# Altium footprint library PcbLib1.PcbLib: 29 footprints (part 2 of 2)
Each footprint in its own frame and in the unit in brackets; x right, y up, seen from the top. Pads: shape width x height; smd on the part's side, far side on the other; paste and mask are expansions set on the pad; w line width, h text height; cw(c..) or ccw(c..) is an arc to the next point about the centre after c.
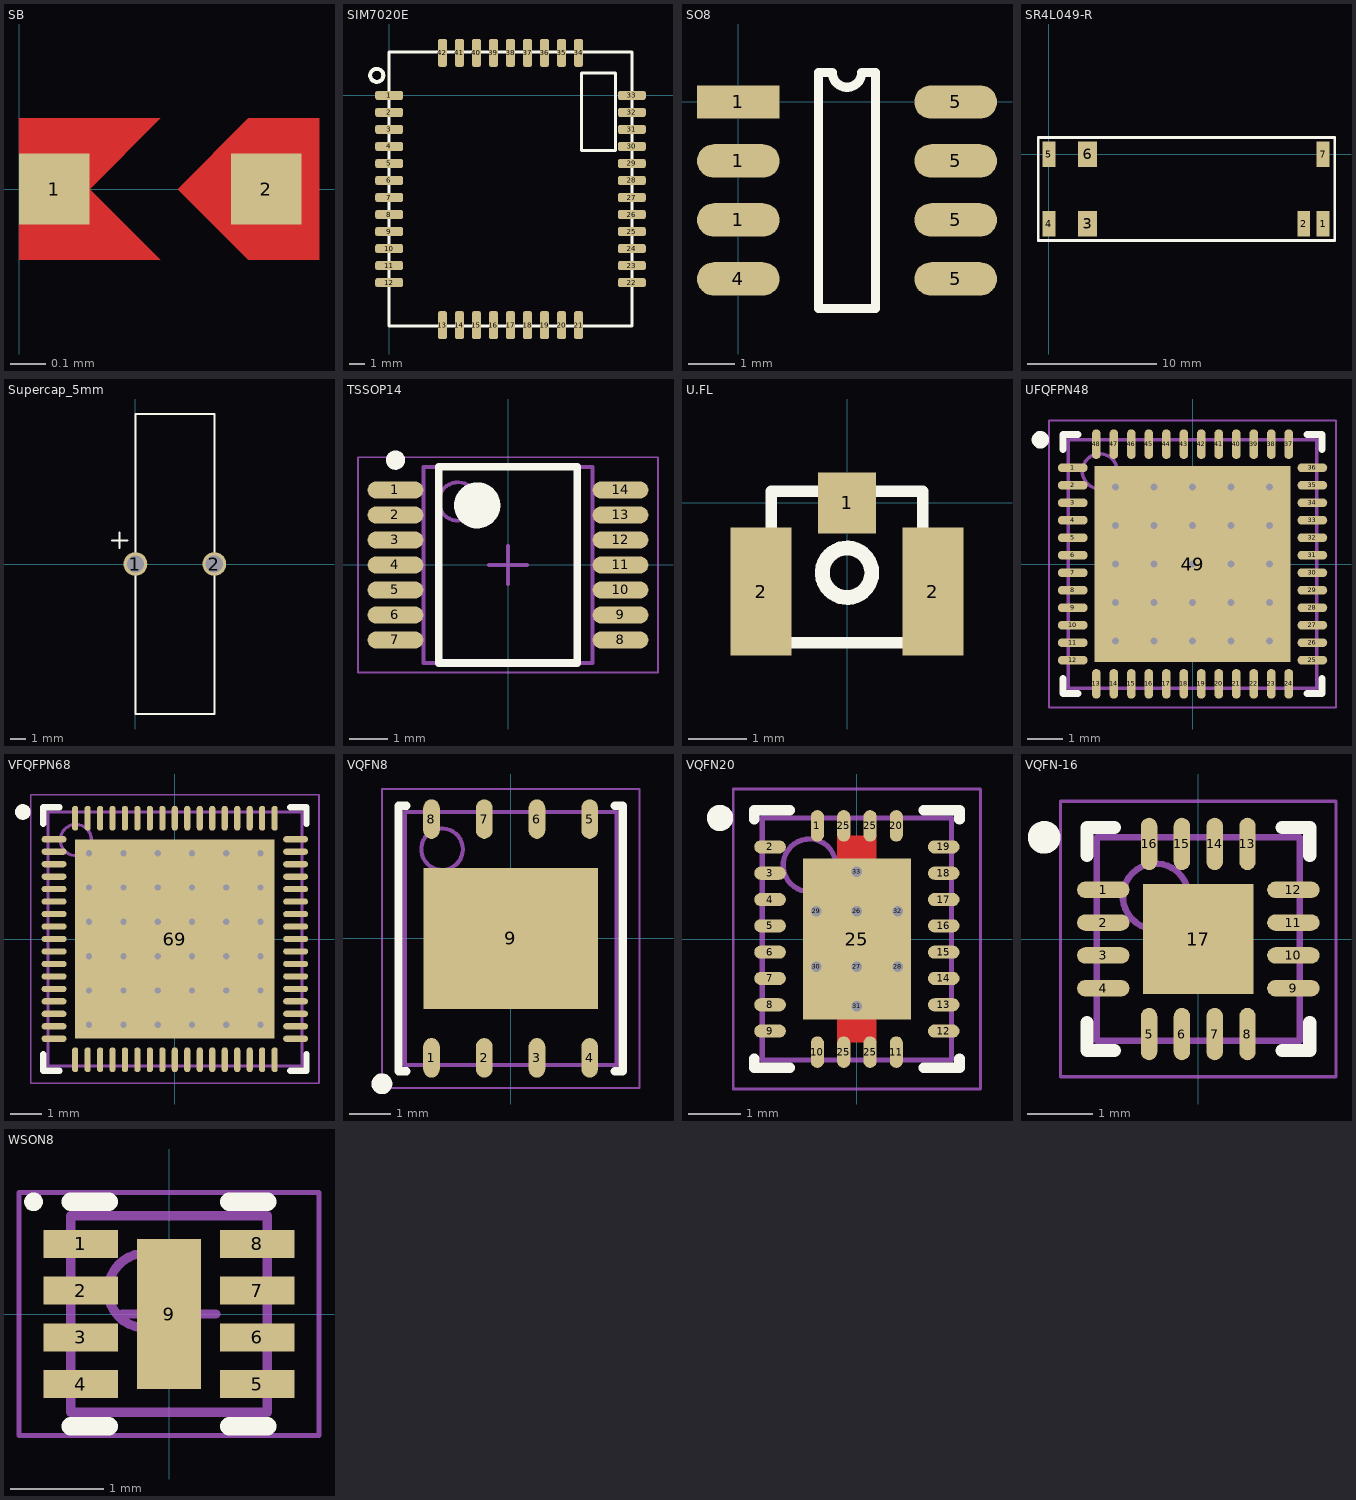
[diagram p1: the footprints below, top view; thin cyan lines are the x and y axes]

## SB [mm]
pads (2):
  rect 0.2x0.2 smd: 1(0.1,0) 2(0.7,0)
Top Layer:
  pour cut-out: 0,0 0,0.2
  region: 0,0.2 0.4,0.2 0.2,0 0.4,-0.2 0,-0.2
  region: 0.65,0.2 0.45,0 0.65,-0.2 0.85,-0.2 0.85,0.2

## SIM7020E [mm]
pads (42):
  rrect50% 1.8x0.6 smd: 1(0,0) 2(0,-1.1) 3(0,-2.2) 4(0,-3.3) 5(0,-4.4) 6(0,-5.5) 7(0,-6.6) 8(0,-7.7) 9(0,-8.8) 10(0,-9.9) 11(0,-11) 12(0,-12.1) 22(15.7,-12.1) 23(15.7,-11) 24(15.7,-9.9) 25(15.7,-8.8) 26(15.7,-7.7) 27(15.7,-6.6) 28(15.7,-5.5) 29(15.7,-4.4) 30(15.7,-3.3) 31(15.7,-2.2) 32(15.7,-1.1) 33(15.7,0)
  rrect50% 0.6x1.8 smd: 13(3.45,-14.85) 14(4.55,-14.85) 15(5.65,-14.85) 16(6.75,-14.85) 17(7.85,-14.85) 18(8.95,-14.85) 19(10.05,-14.85) 20(11.15,-14.85) 21(12.25,-14.85) 34(12.25,2.75) 35(11.15,2.75) 36(10.05,2.75) 37(8.95,2.75) 38(7.85,2.75) 39(6.75,2.75) 40(5.65,2.75) 41(4.55,2.75) 42(3.45,2.75)
Top Overlay:
  circle w0.254: c-0.8,1.3 r0.424
  lines w0.2: 0,-14.9 15.7,-14.9 15.7,2.8 0,2.8 0,0 0,-14.9 ; 12.45,-3.56 14.65,-3.56 14.65,1.44 12.45,1.44 12.45,-3.56

## SO8 [mm]
pads (8):
  oval 1.78x0.72 smd: 1(0,-2.54) 1(0,-1.27) 4(0,-3.81) 5(4.68,-3.81) 5(4.68,-2.54) 5(4.68,-1.27) 5(4.68,0)
  rect 1.78x0.72 smd: 1(0,0)
Top Overlay:
  lines w0.2: 1.725,-4.445 2.955,-4.445 2.955,0.635 2.658,0.635 cw(c2.34,0.635) 2.023,0.635 1.725,0.635 1.725,-4.445

## SR4L049-R [mm]
pads (7):
  rect 1x2 smd: 1(21.3,-5.4) 2(19.8,-5.4) 4(0,-5.4) 5(0,0) 7(21.3,0)
  rect 1.5x2 smd: 3(3,-5.4) 6(3,0)
Top Overlay:
  lines w0.2: -0.809,-6.701 22.191,-6.701 22.191,1.299 -0.809,1.299 -0.809,-6.701

## Supercap_5mm [mm]
pads (2):
  round 1.5 hole 1.1: 1(0,0) 2(5,0)
Top Overlay:
  lines w0.12: -1.5,1.5 -0.5,1.5 -1,1.5 -1,1 -1,2 ; 0,-9.5 5,-9.5 5,9.5 0,9.5 0,0 0,-9.5

## TSSOP14 [mm] "TSSOP14"
height 1.1
pads (14):
  oval 1.45x0.45 smd: 1(-2.925,1.95) 2(-2.925,1.3) 3(-2.925,0.65) 4(-2.925,0) 5(-2.925,-0.65) 6(-2.925,-1.3) 7(-2.925,-1.95) 8(2.925,-1.95) 9(2.925,-1.3) 10(2.925,-0.65) 11(2.925,0) 12(2.925,0.65) 13(2.925,1.3) 14(2.925,1.95)
Top Overlay:
  circle w0.25: c-2.925,2.725 r0.125
  circle w0.6: c-0.8,1.55 r0.3
  lines w0.2: -1.8,-2.55 -1.8,2.55 1.8,2.55 1.8,-2.55 -1.8,-2.55
Mechanical 13:
  circle w0.1: c-1.3,1.65 r0.5
  lines w0.1: -2.2,-2.55 -2.2,2.55 2.2,2.55 2.2,-2.55 -2.2,-2.55
Mechanical 15:
  lines w0.05: -3.9,-2.8 -3.9,2.8 3.9,2.8 3.9,-2.8 -3.9,-2.8
  lines w0.1: -0.5,0 0.5,0 ; 0,-0.5 0,0.5
3D body: height 1.1, standoff 0.05, extent -2.2,-2.55 2.2,2.55

## U.FL [mm]
pads (3):
  rect 1x1.05 smd: 1(0,0)
  rect 1.05x2.2 smd: 2(-1.475,-1.525) 2(1.475,-1.525)
Top Overlay:
  circle w0.254: c0,-1.2 r0.424
  lines w0.2: -1.3,-2.4 1.3,-2.4 1.3,0.2 -1.3,0.2 -1.3,-2.4

## UFQFPN48 [mm] "UFQFPN48"
height 0.55
pads (49):
  oval 0.85x0.25 smd: 1(-3.425,2.75) 2(-3.425,2.25) 3(-3.425,1.75) 4(-3.425,1.25) 5(-3.425,0.75) 6(-3.425,0.25) 7(-3.425,-0.25) 8(-3.425,-0.75) 9(-3.425,-1.25) 10(-3.425,-1.75) 11(-3.425,-2.25) 12(-3.425,-2.75) 25(3.425,-2.75) 26(3.425,-2.25) 27(3.425,-1.75) 28(3.425,-1.25) 29(3.425,-0.75) 30(3.425,-0.25) 31(3.425,0.25) 32(3.425,0.75) 33(3.425,1.25) 34(3.425,1.75) 35(3.425,2.25) 36(3.425,2.75)
  oval 0.25x0.85 smd: 13(-2.75,-3.425) 14(-2.25,-3.425) 15(-1.75,-3.425) 16(-1.25,-3.425) 17(-0.75,-3.425) 18(-0.25,-3.425) 19(0.25,-3.425) 20(0.75,-3.425) 21(1.25,-3.425) 22(1.75,-3.425) 23(2.25,-3.425) 24(2.75,-3.425) 37(2.75,3.425) 38(2.25,3.425) 39(1.75,3.425) 40(1.25,3.425) 41(0.75,3.425) 42(0.25,3.425) 43(-0.25,3.425) 44(-0.75,3.425) 45(-1.25,3.425) 46(-1.75,3.425) 47(-2.25,3.425) 48(-2.75,3.425)
  rect 5.6x5.6 smd: 49(0,0)
via -2.2,2.2 diameter 0.5 hole 0.2
via -1.1,2.2 diameter 0.5 hole 0.2
via 0,2.2 diameter 0.5 hole 0.2
via 1.1,2.2 diameter 0.5 hole 0.2
via 2.2,2.2 diameter 0.5 hole 0.2
via -2.2,1.1 diameter 0.5 hole 0.2
via -1.1,1.1 diameter 0.5 hole 0.2
via 0,1.1 diameter 0.5 hole 0.2
via 1.1,1.1 diameter 0.5 hole 0.2
via 2.2,1.1 diameter 0.5 hole 0.2
via -2.2,0 diameter 0.5 hole 0.2
via -1.1,0 diameter 0.5 hole 0.2
via 0,0 diameter 0.5 hole 0.2
via 1.1,0 diameter 0.5 hole 0.2
via 2.2,0 diameter 0.5 hole 0.2
via -2.2,-1.1 diameter 0.5 hole 0.2
via -1.1,-1.1 diameter 0.5 hole 0.2
via 0,-1.1 diameter 0.5 hole 0.2
via 1.1,-1.1 diameter 0.5 hole 0.2
via 2.2,-1.1 diameter 0.5 hole 0.2
via -2.2,-2.2 diameter 0.5 hole 0.2
via -1.1,-2.2 diameter 0.5 hole 0.2
via 0,-2.2 diameter 0.5 hole 0.2
via 1.1,-2.2 diameter 0.5 hole 0.2
via 2.2,-2.2 diameter 0.5 hole 0.2
Top Overlay:
  circle w0.25: c-4.35,3.55 r0.125
  lines w0.2: -3.7,-3.275 -3.7,-3.7 -3.275,-3.7 ; -3.7,3.275 -3.7,3.7 -3.275,3.7 ; 3.275,-3.7 3.7,-3.7 3.7,-3.275 ; 3.275,3.7 3.7,3.7 3.7,3.275
Mechanical 13:
  circle w0.1: c-2.65,2.65 r0.5
  lines w0.1: -3.55,-3.55 -3.55,3.55 3.55,3.55 3.55,-3.55 -3.55,-3.55
Mechanical 15:
  lines w0.05: -4.1,-4.1 -4.1,4.1 4.1,4.1 4.1,-4.1 -4.1,-4.1
  lines w0.1: -0.5,0 0.5,0 ; 0,-0.5 0,0.5
3D body: height 0.55, standoff 0.02, extent -3.55,-3.55 3.55,3.55

## VFQFPN68 [mm] "VFQFPN68"
height 0.9
pads (69):
  oval 0.8x0.2 smd: 1(-3.875,3.2) 2(-3.875,2.8) 3(-3.875,2.4) 4(-3.875,2) 5(-3.875,1.6) 6(-3.875,1.2) 7(-3.875,0.8) 8(-3.875,0.4) 9(-3.875,0) 10(-3.875,-0.4) 11(-3.875,-0.8) 12(-3.875,-1.2) 13(-3.875,-1.6) 14(-3.875,-2) 15(-3.875,-2.4) 16(-3.875,-2.8) 17(-3.875,-3.2) 35(3.875,-3.2) 36(3.875,-2.8) 37(3.875,-2.4) 38(3.875,-2) 39(3.875,-1.6) 40(3.875,-1.2) 41(3.875,-0.8) 42(3.875,-0.4) 43(3.875,0) 44(3.875,0.4) 45(3.875,0.8) 46(3.875,1.2) 47(3.875,1.6) 48(3.875,2) 49(3.875,2.4) 50(3.875,2.8) 51(3.875,3.2)
  oval 0.2x0.8 smd: 18(-3.2,-3.875) 19(-2.8,-3.875) 20(-2.4,-3.875) 21(-2,-3.875) 22(-1.6,-3.875) 23(-1.2,-3.875) 24(-0.8,-3.875) 25(-0.4,-3.875) 26(0,-3.875) 27(0.4,-3.875) 28(0.8,-3.875) 29(1.2,-3.875) 30(1.6,-3.875) 31(2,-3.875) 32(2.4,-3.875) 33(2.8,-3.875) 34(3.2,-3.875) 52(3.2,3.875) 53(2.8,3.875) 54(2.4,3.875) 55(2,3.875) 56(1.6,3.875) 57(1.2,3.875) 58(0.8,3.875) 59(0.4,3.875) 60(0,3.875) 61(-0.4,3.875) 62(-0.8,3.875) 63(-1.2,3.875) 64(-1.6,3.875) 65(-2,3.875) 66(-2.4,3.875) 67(-2.8,3.875) 68(-3.2,3.875)
  rect 6.4x6.4 smd: 69(0,0)
via -2.75,2.75 diameter 0.5 hole 0.2
via -1.65,2.75 diameter 0.5 hole 0.2
via -0.55,2.75 diameter 0.5 hole 0.2
via 0.55,2.75 diameter 0.5 hole 0.2
via 1.65,2.75 diameter 0.5 hole 0.2
via 2.75,2.75 diameter 0.5 hole 0.2
via -2.75,1.65 diameter 0.5 hole 0.2
via -1.65,1.65 diameter 0.5 hole 0.2
via -0.55,1.65 diameter 0.5 hole 0.2
via 0.55,1.65 diameter 0.5 hole 0.2
via 1.65,1.65 diameter 0.5 hole 0.2
via 2.75,1.65 diameter 0.5 hole 0.2
via -2.75,0.55 diameter 0.5 hole 0.2
via -1.65,0.55 diameter 0.5 hole 0.2
via -0.55,0.55 diameter 0.5 hole 0.2
via 0.55,0.55 diameter 0.5 hole 0.2
via 1.65,0.55 diameter 0.5 hole 0.2
via 2.75,0.55 diameter 0.5 hole 0.2
via -2.75,-0.55 diameter 0.5 hole 0.2
via -1.65,-0.55 diameter 0.5 hole 0.2
via -0.55,-0.55 diameter 0.5 hole 0.2
via 0.55,-0.55 diameter 0.5 hole 0.2
via 1.65,-0.55 diameter 0.5 hole 0.2
via 2.75,-0.55 diameter 0.5 hole 0.2
via -2.75,-1.65 diameter 0.5 hole 0.2
via -1.65,-1.65 diameter 0.5 hole 0.2
via -0.55,-1.65 diameter 0.5 hole 0.2
via 0.55,-1.65 diameter 0.5 hole 0.2
via 1.65,-1.65 diameter 0.5 hole 0.2
via 2.75,-1.65 diameter 0.5 hole 0.2
via -2.75,-2.75 diameter 0.5 hole 0.2
via -1.65,-2.75 diameter 0.5 hole 0.2
via -0.55,-2.75 diameter 0.5 hole 0.2
via 0.55,-2.75 diameter 0.5 hole 0.2
via 1.65,-2.75 diameter 0.5 hole 0.2
via 2.75,-2.75 diameter 0.5 hole 0.2
Top Overlay:
  circle w0.25: c-4.875,4.075 r0.125
  lines w0.2: -4.225,-3.7 -4.225,-4.225 -3.7,-4.225 ; -4.225,3.7 -4.225,4.225 -3.7,4.225 ; 3.7,-4.225 4.225,-4.225 4.225,-3.7 ; 3.7,4.225 4.225,4.225 4.225,3.7
Mechanical 13:
  circle w0.1: c-3.175,3.175 r0.5
  lines w0.1: -4.075,-4.075 -4.075,4.075 4.075,4.075 4.075,-4.075 -4.075,-4.075
Mechanical 15:
  lines w0.05: -4.625,-4.625 -4.625,4.625 4.625,4.625 4.625,-4.625 -4.625,-4.625
  lines w0.1: -0.5,0 0.5,0 ; 0,-0.5 0,0.5
3D body: height 0.9, standoff 0.02, extent -4.075,-4.075 4.075,4.075

## VQFN8 [mm] "VQFN8"
height 0.9
pads (9):
  oval 0.4x0.95 smd: 1(-1.905,-2.875) 2(-0.635,-2.875) 3(0.635,-2.875) 4(1.905,-2.875) 5(1.905,2.875) 6(0.635,2.875) 7(-0.635,2.875) 8(-1.905,2.875)
  rect 4.2x3.4 smd: 9(0,0)
Top Overlay:
  circle w0.25: c-3.1,-3.5 r0.125
  lines w0.2: -2.7,-0.035 -2.7,3.2 -2.505,3.2 ; -2.7,0.035 -2.7,-3.2 -2.505,-3.2 ; 2.505,-3.2 2.7,-3.2 2.7,0.035 ; 2.505,3.2 2.7,3.2 2.7,-0.035
Mechanical 13:
  circle w0.1: c-1.65,2.15 r0.5
  lines w0.1: -2.55,-3.05 2.55,-3.05 2.55,3.05 -2.55,3.05 -2.55,-3.05
Mechanical 15:
  lines w0.05: -3.1,-3.6 3.1,-3.6 3.1,3.6 -3.1,3.6 -3.1,-3.6
  lines w0.1: -0.5,0 0.5,0 ; 0,-0.5 0,0.5
3D body: height 0.9, standoff 0.05, extent -2.55,-3.05 2.55,3.05

## VQFN20 [mm] "VQFN20"
height 1
pads (33):
  oval 0.25x0.6 smd: 1(-0.75,2.15) 10(-0.75,-2.15) 11(0.75,-2.15) 20(0.75,2.15) 25(-0.25,-2.15) 25(-0.25,2.15) 25(0.25,-2.15) 25(0.25,2.15)
  oval 0.6x0.25 smd: 2(-1.65,1.75) 3(-1.65,1.25) 4(-1.65,0.75) 5(-1.65,0.25) 6(-1.65,-0.25) 7(-1.65,-0.75) 8(-1.65,-1.25) 9(-1.65,-1.75) 12(1.65,-1.75) 13(1.65,-1.25) 14(1.65,-0.75) 15(1.65,-0.25) 16(1.65,0.25) 17(1.65,0.75) 18(1.65,1.25) 19(1.65,1.75)
  rect 2.05x3.05 smd: 25(0,0)
  round 0.2 hole 0.2: 26(0,0.525) 27(0,-0.525) 28(0.775,-0.525) 29(-0.775,0.525) 30(-0.775,-0.525) 31(0,-1.275) 32(0.775,0.525) 33(0,1.275)
Top Layer:
  pour cut-out: -0.377,-1.51
  region: 0.373,-1.515 0.373,-1.965 -0.375,-1.965 -0.375,-1.512 -0.377,-1.51
  region: -0.376,1.498 -0.376,1.965 0.371,1.965 0.371,1.498
Top Overlay:
  circle w0.25: c-2.6,2.3 r0.125
  lines w0.2: -1.95,-2.275 -1.95,-2.45 -1.275,-2.45 ; -1.95,2.275 -1.95,2.45 -1.275,2.45 ; 1.275,-2.45 1.95,-2.45 1.95,-2.275 ; 1.275,2.45 1.95,2.45 1.95,2.275
Mechanical 13:
  circle w0.1: c-0.9,1.4 r0.5
  lines w0.1: -1.8,-2.3 -1.8,2.3 1.8,2.3 1.8,-2.3 -1.8,-2.3
Mechanical 15:
  lines w0.05: -2.35,-2.85 -2.35,2.85 2.35,2.85 2.35,-2.85 -2.35,-2.85
  lines w0.1: -0.5,0 0.5,0 ; 0,-0.5 0,0.5
3D body: height 1, standoff 0.08, extent -1.8,-2.3 1.8,2.3

## VQFN-16 [mm] "VQFN-16"
height 1
pads (17):
  oval 0.8x0.25 smd: 1(-1.45,0.75) 2(-1.45,0.25) 3(-1.45,-0.25) 4(-1.45,-0.75) 9(1.45,-0.75) 10(1.45,-0.25) 11(1.45,0.25) 12(1.45,0.75)
  oval 0.25x0.8 smd: 5(-0.75,-1.45) 6(-0.25,-1.45) 7(0.25,-1.45) 8(0.75,-1.45) 13(0.75,1.45) 14(0.25,1.45) 15(-0.25,1.45) 16(-0.75,1.45)
  rect 1.68x1.68 smd: 17(0,0)
Top Overlay:
  circle w0.25: c-2.35,1.55 r0.125
  lines w0.2: -1.7,-1.275 -1.7,-1.7 -1.275,-1.7 ; -1.7,1.275 -1.7,1.7 -1.275,1.7 ; 1.275,-1.7 1.7,-1.7 1.7,-1.275 ; 1.275,1.7 1.7,1.7 1.7,1.275
Mechanical 13:
  circle w0.1: c-0.65,0.65 r0.5
  lines w0.1: -1.55,-1.55 1.55,-1.55 1.55,1.55 -1.55,1.55 -1.55,-1.55
Mechanical 15:
  lines w0.05: -2.1,-2.1 2.1,-2.1 2.1,2.1 -2.1,2.1 -2.1,-2.1
  lines w0.1: -0.5,0 0.5,0 ; 0,-0.5 0,0.5
3D body: height 1, standoff 0.05, extent -1.55,-1.55 1.55,1.55

## WSON8 [mm] "WSON8"
height 0.8
pads (9):
  rect 0.8x0.3 smd: 1(-0.945,0.75) 2(-0.945,0.25) 3(-0.945,-0.25) 4(-0.945,-0.75) 5(0.945,-0.75) 6(0.945,-0.25) 7(0.945,0.25) 8(0.945,0.75)
  rect 0.69x1.6 smd: 9(0,0)
Top Overlay:
  circle w0.1: c-1.45,1.2 r0.05
  lines w0.2: -1.05,-1.2 -0.645,-1.2 ; -1.05,1.2 -0.645,1.2 ; 0.645,-1.2 1.05,-1.2 ; 0.645,1.2 1.05,1.2
Mechanical 13:
  circle w0.1: c-0.25,0.25 r0.4
  lines w0.1: -1.05,-1.05 -1.05,1.05 1.05,1.05 1.05,-1.05 -1.05,-1.05
Mechanical 15:
  lines w0.05: -1.605,-1.3 -1.605,1.3 1.605,1.3 1.605,-1.3 -1.605,-1.3
  lines w0.1: -0.5,0 0.5,0 ; 0,-0.5 0,0.5
3D body: height 0.8, standoff 0.08, extent -1.05,-1.05 1.05,1.05